# Altium footprint library BAT_BA2AAPC-UL94V-0.PcbLib: 1 footprints
Each footprint in its own frame and in the unit in brackets; x right, y up, seen from the top. Pads: shape width x height; smd on the part's side, far side on the other; paste and mask are expansions set on the pad; w line width, h text height; cw(c..) or ccw(c..) is an arc to the next point about the centre after c.
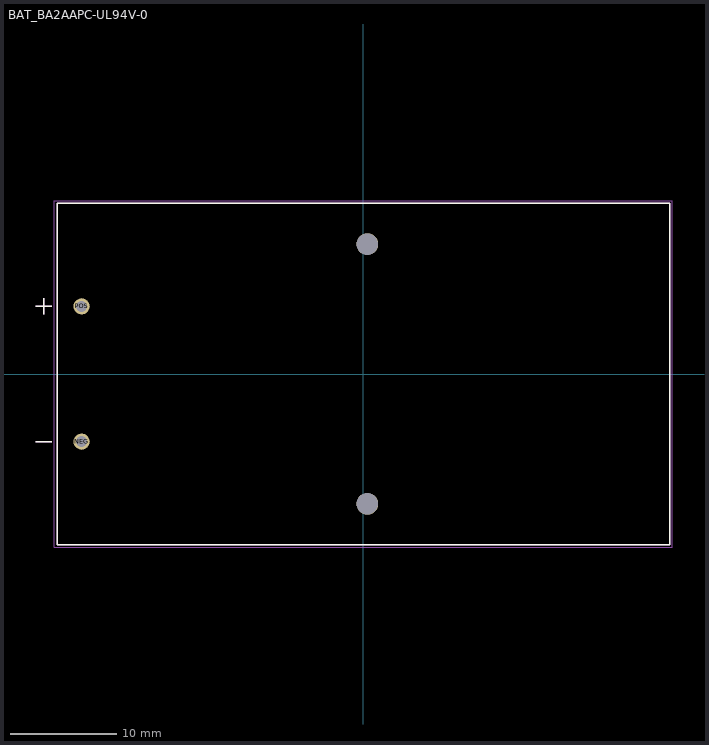
[diagram p0: the footprint, top view; thin cyan lines are the x and y axes]

## BAT_BA2AAPC-UL94V-0 [mm]
pads (4):
  round 1.53 hole 1.02: NEG(-26.44,-6.35) POS(-26.44,6.35)
  round 2.03 hole 2.03 unplated: ""(0.38,-12.19) ""(0.38,12.19)
Top Overlay:
  lines w0.127: -30.74,-6.35 -29.24,-6.35 ; -30.74,6.35 -29.24,6.35 ; -29.99,5.6 -29.99,7.1 ; -28.74,-16.025 28.74,-16.025 28.74,16.025 -28.74,16.025 -28.74,-16.025
Mechanical 13:
  lines w0.127: -30.74,-6.35 -29.24,-6.35 ; -30.74,6.35 -29.24,6.35 ; -29.99,5.6 -29.99,7.1 ; -28.74,-16.025 28.74,-16.025 28.74,16.025 -28.74,16.025 -28.74,-16.025
Mechanical 15:
  lines w0.05: -28.99,-16.275 -28.99,16.275 28.99,16.275 28.99,-16.275 -28.99,-16.275
3D body "step_temp.STEP": height 15.88, standoff -7.37, extent -28.74,-8.013 28.74,24.038